# Altium footprint library HFFP10-CD.PcbLib: 1 footprints
Each footprint in its own frame and in the unit in brackets; x right, y up, seen from the top. Pads: shape width x height; smd on the part's side, far side on the other; paste and mask are expansions set on the pad; w line width, h text height; cw(c..) or ccw(c..) is an arc to the next point about the centre after c.
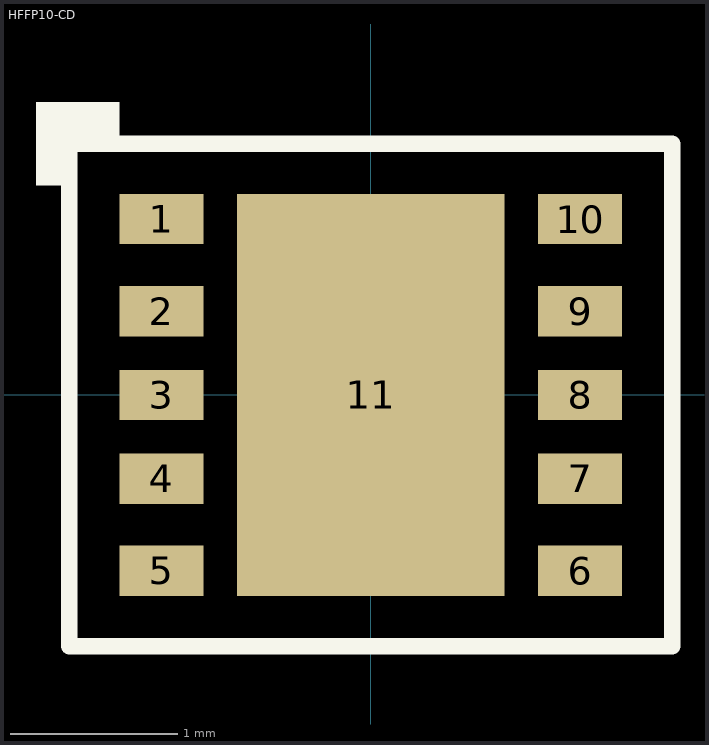
[diagram p0: the footprint, top view; thin cyan lines are the x and y axes]

## HFFP10-CD [mm] "PACKAGE HFFP10-CD"
height 0.63
pads (11):
  rect 0.5x0.3 smd paste-1 mask+0.05: 1(-1.25,1.05) 2(-1.25,0.5) 3(-1.25,0) 4(-1.25,-0.5) 5(-1.25,-1.05) 6(1.25,-1.05) 7(1.25,-0.5) 8(1.25,0) 9(1.25,0.5) 10(1.25,1.05)
  rect 1.6x2.4 smd paste-1 mask+0.05: 11(0,0)
Top Overlay:
  rectangle: -1.8,1.5 -1.5,1.75
  rectangle: -2,1.25 -1.75,1.75
  lines w0.1: -1.8,-1.5 -1.8,1.5 1.8,1.5 1.8,-1.5 -1.8,-1.5
Top Paste:
  drawing of 18 lines, arcs and shapes, not listed
3D body: height 0.64, standoff 0.63, extent -0.975,0.725 -0.725,0.975
3D body: height 0.63, standoff 0.24, extent -1.2,-1.2 1.2,1.2
3D body: height 0.24, standoff 0, extent -1.25,-1.25 1.25,1.25